# EAGLE library part 27WZ14 (library IC)
On Semiconductor 27WZ14 Dual Schmitt Trigger Inverter
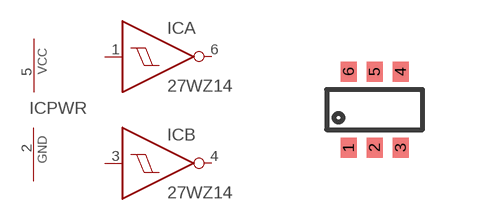
[diagram p70: symbol with the pads of SC70-6L; footprint SC70-6L]

Designator prefix IC; gates A=7414 B=7414 PWR=PWR-VCC-GND

## 27WZ14DF  [SC70-6L]
1  A:I  in
2  PWR:GND  pwr
3  B:I  in
4  B:O  out
5  PWR:VCC  pwr
6  A:O  out

## Footprint SC70-6L (pad centres in mm)
6-Lead SC70, EIAJ SC88, 1.25mm Wide
smd 0.4 x 0.5: 1 -0.65,-0.95; 2 0,-0.95; 3 0.65,-0.95; 4 0.65,0.95; 5 0,0.953; 6 -0.65,0.95